# EAGLE library part DFA20E (library dc-dc-converter)
DFA20 Single-Output DC-DC Series Source: www.power-one.com / dfa20s_PCB mountable.pdf
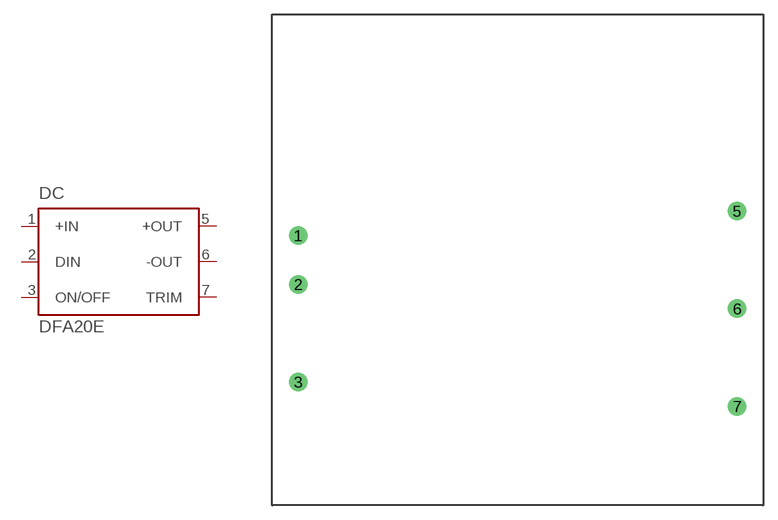
[diagram p6: symbol with the pads of DFA20; footprint DFA20]

Designator prefix DC

## DFA20E12S12 (OC_FARNELL: unknown; OC_NEWARK: unknown), DFA20E12S15 (OC_FARNELL: unknown; OC_NEWARK: unknown), DFA20E12S3.3 (OC_FARNELL: unknown; OC_NEWARK: unknown), DFA20E12S5 (OC_FARNELL: unknown; OC_NEWARK: unknown), DFA20E24S12 (OC_FARNELL: unknown; OC_NEWARK: unknown), DFA20E24S15 (OC_FARNELL: unknown; OC_NEWARK: unknown), DFA20E24S3.3 (OC_FARNELL: unknown; OC_NEWARK: unknown), DFA20E24S5 (OC_FARNELL: unknown; OC_NEWARK: unknown), DFA20E48S12 (OC_FARNELL: unknown; OC_NEWARK: unknown)  [DFA20]
1  +IN  in
2  DIN  in
3  ON/OFF  in
5  +OUT  out
6  -OUT  out
7  TRIM  in

## Footprint DFA20 (pad centres in mm)
DFA20 Single-Output DC-DC Series Source: www.power-one.com / dfa20s_PCB mountable.pdf
drill 1.2 pad 1.93: 1 -22.86,2.54; 2 -22.86,-2.54; 3 -22.86,-12.7; 5 22.86,5.08; 6 22.86,-5.08; 7 22.86,-15.24